# Altium schematic symbol library Polarised Capacitor.SCHLIB: 1 symbol
Pins are listed as number, name and electrical type; pins without a type are passive.

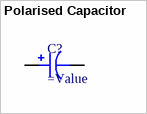
[diagram p0: symbol Polarised Capacitor]

## Polarised Capacitor
designator C?
SMT Polarised Capacitor
pins: 1, 2